# EAGLE library part AFBR-5803Z (library balto)
AFBR-5803Z
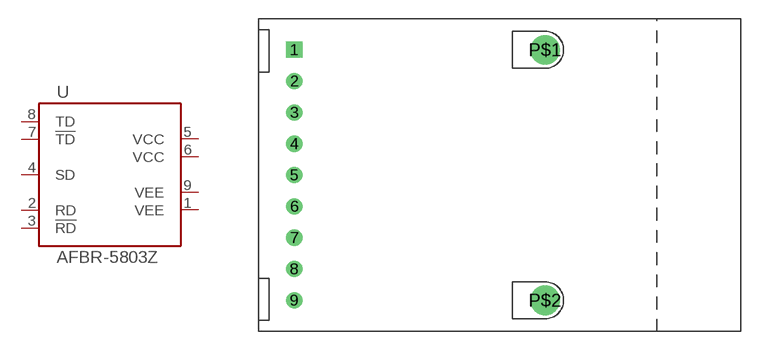
[diagram p36: symbol with the pads of AFBR-5803Z; footprint AFBR-5803Z]

Designator prefix U

## AFBR-5803Z  [AFBR-5803Z]
1  VEE
2  RD
3  !RD
4  SD
5  VCC
6  VCC
7  !TD
8  TD
9  VEE

## Footprint AFBR-5803Z (pad centres in mm)
drill 0.8 square: 1 -16.765,10.16
drill 0.8: 2 -16.765,7.62; 3 -16.765,5.08; 4 -16.765,2.54; 5 -16.765,0; 6 -16.765,-2.54; 7 -16.765,-5.08; 8 -16.765,-7.62; 9 -16.765,-10.16
drill 1.6: P$1 3.55,10.16; P$2 3.55,-10.16